# EAGLE library part JUMPER_2X10 (library be_con_jump)
jumper device 2x10 drawn: Mario Blunk / Blunk electronic
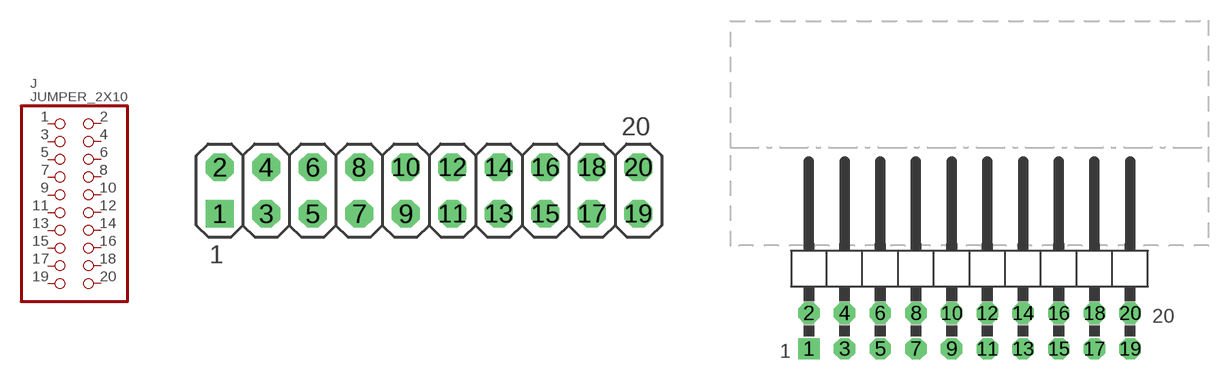
[diagram p0: symbol with the pads of T_MALE_2X10_VERTICAL_PITCH_2MM54; footprints T_MALE_2X10_VERTICAL_PITCH_2MM54, T_MALE_2X10_HORIZONTAL_PITCH_2M54]

Designator prefix J

## JUMPER_2X10-T-VERTICAL (BOM: YES; COMMISSIONED: 2013-08-30; PART_CODE_BEL: J_PAC_T_MALE_2X20_VERTICAL)  [T_MALE_2X10_VERTICAL_PITCH_2MM54]
1  1  pas
2  2  pas
3  3  pas
4  4  pas
5  5  pas
6  6  pas
7  7  pas
8  8  pas
9  9  pas
10  10  pas
11  11  pas
12  12  pas
13  13  pas
14  14  pas
15  15  pas
16  16  pas
17  17  pas
18  18  pas
19  19  pas
20  20  pas

## JUMPER_2X10-T-HORIZONTAL (BOM: YES; COMMISSIONED: 2013-08-30; PART_CODE_BEL: J_PAC_T_MALE_2X10_HORIZONTAL)  [T_MALE_2X10_HORIZONTAL_PITCH_2M54]
Pads as for T_MALE_2X10_VERTICAL_PITCH_2MM54

## Footprint T_MALE_2X10_VERTICAL_PITCH_2MM54 (pad centres in mm)
edited: Mario Blunk date: 2015-01-28
drill 1 square: 1 -11.43,-1.27
drill 1 octagon: 2 -11.43,1.27; 3 -8.89,-1.27; 4 -8.89,1.27; 5 -6.35,-1.27; 6 -6.35,1.27; 7 -3.81,-1.27; 8 -3.81,1.27; 9 -1.27,-1.27; 10 -1.27,1.27; 11 1.27,-1.27; 12 1.27,1.27; 13 3.81,-1.27; 14 3.81,1.27; 15 6.35,-1.27; 16 6.35,1.27; 17 8.89,-1.27; 18 8.89,1.27; 19 11.43,-1.27; 20 11.43,1.27

## Footprint T_MALE_2X10_HORIZONTAL_PITCH_2M54 (pad centres in mm)
edited: Mario Blunk / Blunk electronic date: 2019-05-16
drill 1.016 square: 1 -11.43,-6.35
drill 1.016 octagon: 2 -11.43,-3.81; 3 -8.89,-6.35; 4 -8.89,-3.81; 5 -6.35,-6.35; 6 -6.35,-3.81; 7 -3.81,-6.35; 8 -3.81,-3.81; 9 -1.27,-6.35; 10 -1.27,-3.81; 11 1.27,-6.35; 12 1.27,-3.81; 13 3.81,-6.35; 14 3.81,-3.81; 15 6.35,-6.35; 16 6.35,-3.81; 17 8.89,-6.35; 18 8.89,-3.81; 19 11.43,-6.35; 20 11.43,-3.81